# Altium integrated library IR2101.IntLib: 1 symbol
Pins are listed as number, name and electrical type; pins without a type are passive.

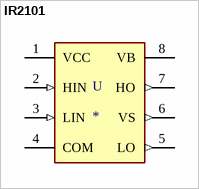
[diagram p0: symbol IR2101]

## IR2101
designator U
Half-Bridge Gate Driver IC Non-Inverting 8-PDIP; MF: Infineon; MP: IR2101; Value: *; Package: DIP-8 International Rectifier; Price: None; Availability: Unavailable; SnapEDA_Link: https://www.snapeda.com/parts/IR2101/Infineon%20Technologies/view-part/41866/?ref=snap
footprint DIL08
pins: 1 VCC (power), 2 HIN (in), 3 LIN (in), 4 COM (power), 5 LO (out), 6 VS (out), 7 HO (out), 8 VB (power)